# Altium footprint library 1N4148W.PcbLib: 1 footprints
Each footprint in its own frame and in the unit in brackets; x right, y up, seen from the top. Pads: shape width x height; smd on the part's side, far side on the other; paste and mask are expansions set on the pad; w line width, h text height; cw(c..) or ccw(c..) is an arc to the next point about the centre after c.
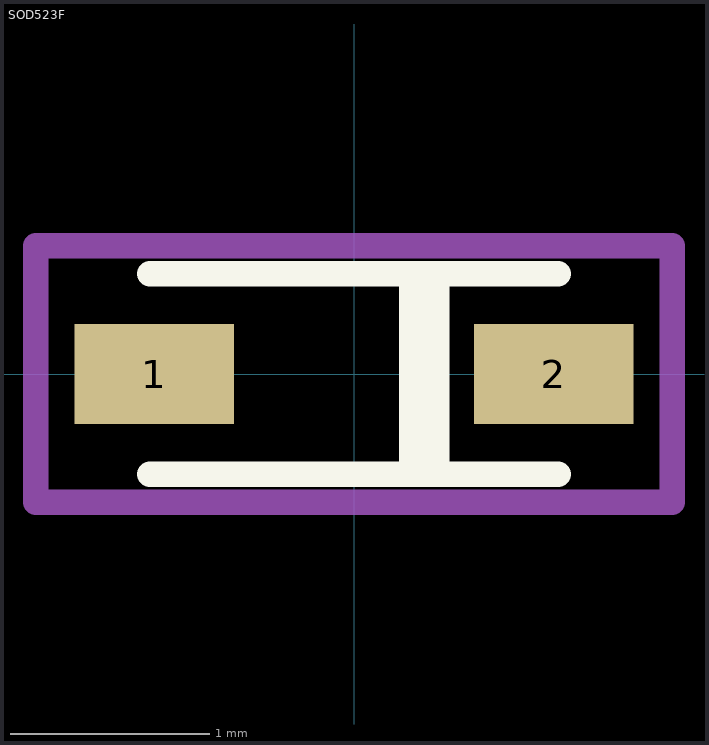
[diagram p0: the footprint, top view; thin cyan lines are the x and y axes]

## SOD523F [mm]
pads (2):
  rect 0.8x0.5 smd: 1(-1,0) 2(1,0)
Top Overlay:
  lines w0.127: -1.022,-0.502 1.022,-0.502 ; -1.022,0.502 1.022,0.502 ; 0.289,-0.489 0.289,0.489 ; 0.416,-0.489 0.416,0.489
Mechanical 15:
  lines w0.127: -1.594,-0.643 -1.594,0.643 1.594,0.643 1.594,-0.643 -1.594,-0.643
3D body "step_temp.STEP": height 1.15, standoff 0, extent -1.338,-0.65 1.338,0.65